# EAGLE library part MA04-2 (library 000001)
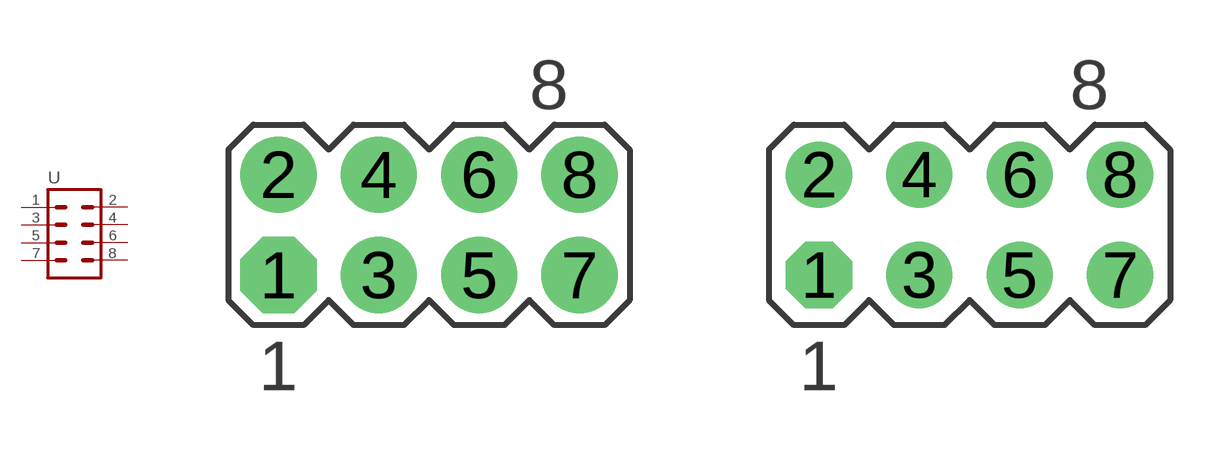
[diagram p46: symbol with the pads of MA04-2; footprints MA04-2, MA04-2_PCB]

Designator prefix -

## MA04-2  [MA04-2]
1  1  pas
2  2  pas
3  3  pas
4  4  pas
5  5  pas
6  6  pas
7  7  pas
8  8  pas

## MA04-2PCB  [MA04-2_PCB]
Pads as for MA04-2

## Footprint MA04-2 (pad centres in mm)
drill 0.5 pad 1.93 octagon: 1 -3.81,-1.27
drill 0.5 pad 1.93 round: 2 -3.81,1.27; 3 -1.27,-1.27; 4 -1.27,1.27; 5 1.27,-1.27; 6 1.27,1.27; 7 3.81,-1.27; 8 3.81,1.27

## Footprint MA04-2_PCB (pad centres in mm)
drill 0.95 pad 1.676 octagon: 1 -3.81,-1.27
drill 0.95 pad 1.676 round: 2 -3.81,1.27; 3 -1.27,-1.27; 4 -1.27,1.27; 5 1.27,-1.27; 6 1.27,1.27; 7 3.81,-1.27; 8 3.81,1.27